# Altium schematic symbol library TD2_Project.SchLib: 39 symbols
Pins are listed as number, name and electrical type; pins without a type are passive.

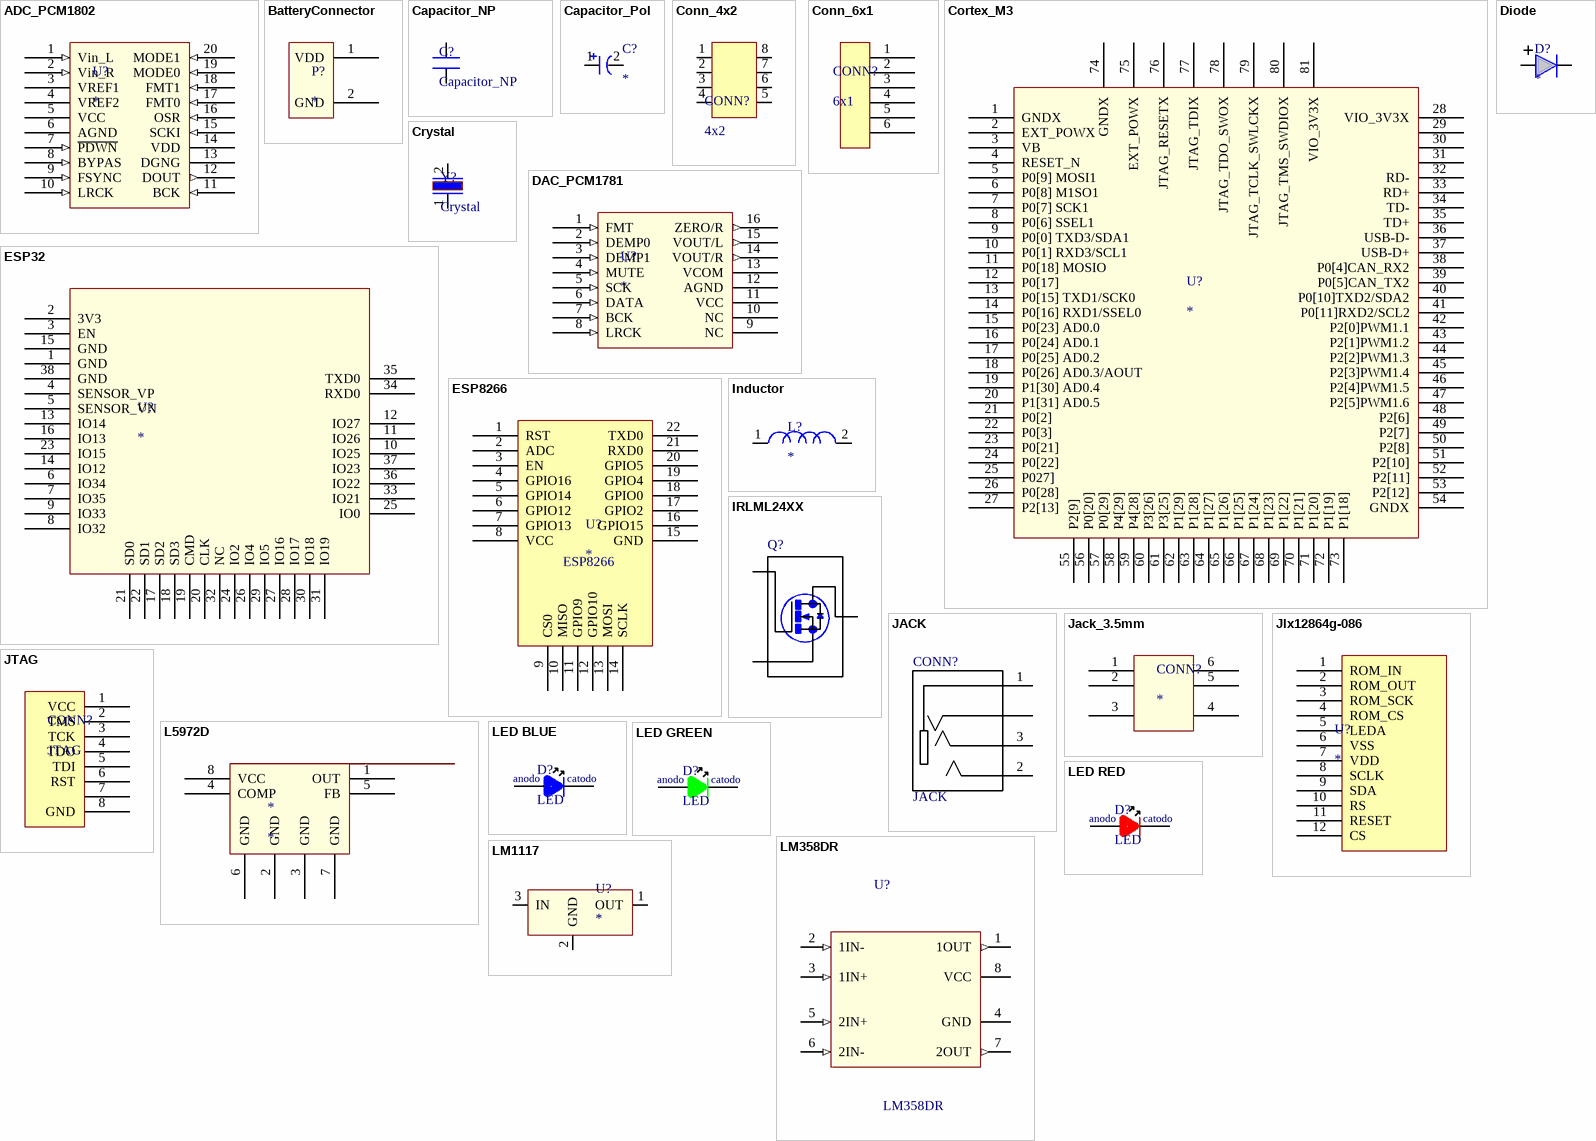
[diagram p0: symbols ADC_PCM1802 to LM1117]

## ADC_PCM1802
designator U?
The PCM1802 is a high-performance, low-cost, / single-chip stereo analog-to-digital converter with / single-ended analog voltage input. The PCM1802 / uses a delta-sigma modulator with 64-times or / 128‑times oversampling, and includes a digital / decimation filter and high-pass filter (HPF), which / removes the DC component of the input signal. For / various applications, the PCM1802 supports master / and slave modes and four data formats in serial / interface. The PCM1802 is suitable for a wide variety / of cost-sensitive consumer applications where good / performance, 5-V analog supply, and 3.3-V digital / supply operation is required. The PCM1802 is / fabricated using a highly advanced CMOS process / and is available in the DB 20-pin SSOP package.
footprint SSOP (20) (ADC_PCM1802)
pins: 1 Vin_L (in), 2 Vin_R (in), 3 VREF1, 4 VREF2, 5 VCC, 6 AGND, 7 ~{PDWN} (in), 8 BYPAS (in), 9 FSYNC (in), 10 LRCK (in), 11 BCK (in), 12 DOUT (out), 13 DGNG, 14 VDD, 15 SCKI (in), 16 OSR (in), 17 FMT0 (in), 18 FMT1 (in), 19 MODE0 (in), 20 MODE1 (in)

## BatteryConnector
designator P?
footprint BORNERA (S2B-PH-K-S)
pins: 1 VDD, 2 GND

## Capacitor_NP
designator C?
Non Polarised Capacitor
footprint C_0805 (Capacitor SMD)
pins: 1, 2

## Capacitor_Pol
designator C?
Polarysed Capacitor
footprint C_0805_Pol (CAPACITOR_POLARYSED)
pins: 1, 2

## Conn_4x2
designator CONN?, comment 4x2
pins: 1, 2, 3, 4, 5, 6, 7, 8

## Conn_6x1
designator CONN?, comment 6x1
pins: 1, 2, 3, 4, 5, 6

## Cortex_M3
designator U?
pins: 1 GNDX, 2 EXT_POWX, 3 VB, 4 RESET_N, 5 P0[9] MOSI1, 6 P0[8] M1SO1, 7 P0[7] SCK1, 8 P0[6] SSEL1, 9 P0[0] TXD3/SDA1, 10 P0[1] RXD3/SCL1, 11 P0[18] MOSIO, 12 P0[17], 13 P0[15] TXD1/SCK0, 14 P0[16] RXD1/SSEL0, 15 P0[23] AD0.0, 16 P0[24] AD0.1, 17 P0[25] AD0.2, 18 P0[26] AD0.3/AOUT, 19 P1[30] AD0.4, 20 P1[31] AD0.5, 21 P0[2], 22 P0[3], 23 P0[21], 24 P0[22], 25 P027], 26 P0[28], 27 P2[13], 28 VIO_3V3X, 29, 30, 31, 32 RD-, 33 RD+, 34 TD-, 35 TD+, 36 USB-D-, 37 USB-D+, 38 P0[4]CAN_RX2, 39 P0[5]CAN_TX2, 40 P0[10]TXD2/SDA2, 41 P0[11]RXD2/SCL2, 42 P2[0]PWM1.1, 43 P2[1]PWM1.2, 44 P2[2]PWM1.3, 45 P2[3]PWM1.4, 46 P2[4]PWM1.5, 47 P2[5]PWM1.6, 48 P2[6], 49 P2[7], 50 P2[8], 51 P2[10], 52 P2[11], 53 P2[12], 54 GNDX, 55 P2[9], 56 P0[20], 57 P0[29], 58 P4[29], 59 P4[28], 60 P3[26], 61 P3[25], 62 P1[29], 63 P1[28], 64 P1[27], 65 P1[26], 66 P1[25], 67 P1[24], 68 P1[23], 69 P1[22], 70 P1[21], 71 P1[20], 72 P1[19], 73 P1[18], 74 GNDX, 75 EXT_POWX, 76 JTAG_RESETX, 77 JTAG_TDIX, 78 JTAG_TDO_SWOX, 79 JTAG_TCLK_SWLCKX, 80 JTAG_TMS_SWDIOX, 81 VIO_3V3X

## Crystal
designator Y?
footprint ABM3C (CRYSTAL-12MHZ-D4Y)
pins: 1, 2

## DAC_PCM1781
designator U?
The PCM1780/81/82 is a CMOS, monolithic, integrated circuit, which includes stereo digital-to-analog converters and support circuitry in a small 16-lead SSOP package. The data converters use TI’s enhanced multilevel delta-sigma architecture to achieve excellent dynamic performance an improved tolerance to clock jitter. Sampling rates up to 200 kHz are supported.
footprint SSOP (20) (ADC_PCM1802)
pins: 1 FMT (in), 2 DEMP0 (in), 3 DEMP1 (in), 4 MUTE (in), 5 SCK (in), 6 DATA (in), 7 BCK (in), 8 LRCK (in), 9 NC, 10 NC, 11 VCC, 12 AGND, 13 VCOM, 14 VOUT/R (out), 15 VOUT/L (out), 16 ZERO/R (out)

## Diode
designator D?
footprint LED_0805
pins: 1 15, 2 16

## ESP32
designator U?
single 2.4 GHz Wi-Fi-and-Bluetooth combo chip
footprint ESP32
pins: 1 GND, 2 3V3, 3 EN, 4 SENSOR_VP, 5 SENSOR_VN, 6 IO34, 7 IO35, 8 IO32, 9 IO33, 10 IO25, 11 IO26, 12 IO27, 13 IO14, 14 IO12, 15 GND, 16 IO13, 17 SD2, 18 SD3, 19 CMD, 20 CLK, 21 SD0, 22 SD1, 23 IO15, 24 IO2, 25 IO0, 26 IO4, 27 IO16, 28 IO17, 29 IO5, 30 IO18, 31 IO19, 32 NC, 33 IO21, 34 RXD0, 35 TXD0, 36 IO22, 37 IO23, 38 GND

## ESP8266
designator U?
footprint ESP8266
pins: 1 RST, 2 ADC, 3 EN, 4 GPIO16, 5 GPIO14, 6 GPIO12, 7 GPIO13, 8 VCC, 9 CS0, 10 MISO, 11 GPIO9, 12 GPIO10, 13 MOSI, 14 SCLK, 15 GND, 16 GPIO15, 17 GPIO2, 18 GPIO0, 19 GPIO4, 20 GPIO5, 21 RXD0, 22 TXD0

## Inductor
designator L?
footprint MPI40-V2 (inductor)
pins: 1, 2

## IRLML24XX
designator Q?
MF: Infineon Technologies; MP: IRLML0040TRPBF; SnapEDA_Link: https://www.snapeda.com/parts/IRLML0040TRPBF/Infineon%20Technologies/view-part/?ref=snap; Price: None; Package: SOT-23 International Rectifier; Availability: Unavailable; Value: *
footprint *SOT95P237X112-3N
pins: 1 G, 2 S, 3 D

## JACK
designator CONN?
3.5 mm, Stereo, Right Angle, Surface Mount _SMT_, Audio Jack Connector; MF: CUI Inc.; MP: SJ2-35944A-SMT-TR; SnapEDA_Link: https://www.snapeda.com/parts/SJ2-35944A-SMT-TR/CUI%20Inc./view-part/?ref=snap; Package: None; CUI_purchase_URL: https://www.cui.com/product/interconnect/connectors/audio-connectors/jacks/sj2-3594x-smt-series?utm_source=snapeda.com&utm_medium=referral&utm_campaign=snapedaBOM; Availability: Unavailable; Price: None; Value: *
footprint JACK_3.5mm (*CUI_SJ2-35944A-SMT-TR_SJ2-35944A-SMT-TR(Primary))
pins: 1 SLEEVE, 2 TIP, 3 RING1, 4_1 RING2, 4_2 RING2

## Jack_3.5mm
designator CONN?
footprint JACK_3.5mm (*CUI_SJ2-35944A-SMT-TR_SJ2-35944A-SMT-TR(Primary))
pins: 1, 2, 3, 4, 5, 6

## Jlx12864g-086
designator U?
Display Lcd Gafico Spi 128x64 Jlx12864g-086
pins: 1 ROM_IN, 2 ROM_OUT, 3 ROM_SCK, 4 ROM_CS, 5 LEDA, 6 VSS, 7 VDD, 8 SCLK, 9 SDA, 10 RS, 11 RESET, 12 CS

## JTAG
designator CONN?
footprint JTAG
pins: 1 VCC, 2 TMS, 3 TCK, 4 TDO, 5 TDI, 6 RST, 7, 8 GND

## L5972D
designator *
2A switch step down switching regulator
pins: 1 OUT, 2 GND, 3 GND, 4 COMP, 5 FB, 6 GND, 7 GND, 8 VCC

## LED BLUE
designator D?, comment LED
footprint LED_0805
pins: 1 A, 2 K
text: anodo; catodo

## LED GREEN
designator D?, comment LED
footprint LED_0805
pins: 1 A, 2 K
text: anodo; catodo

## LED RED
designator D?, comment LED
footprint LED_0805
pins: 1 A, 2 K
text: anodo; catodo

## LM358DR
designator U?
Dual Operational Amplifiers 8-SOIC 0 to 70; MF: Texas Instruments; Package: SOIC-8 Texas Instruments; MP: LM358DR; Price: None; Availability: Unavailable; SnapEDA_Link: https://www.snapeda.com/parts/LM358DR/Texas%20Instruments/view-part/?ref=snap; Value: *
footprint LM358 (*SOIC127P600X175-8N)
pins: 1 1OUT (out), 2 1IN- (in), 3 1IN+ (in), 4 GND, 5 2IN+ (in), 6 2IN- (in), 7 2OUT (out), 8 VCC (power)

## LM1117
designator U?
low dropout positive voltage regulators that / are capable of providing an output current that is in excess of 1.0 A / with a maximum dropout voltage of 1.2 V at 800 mA over / temperature. This series contains nine fixed output voltages of 1.5 V, / 1.8 V, 1.9 V, 2.0 V, 2.5 V, 2.85 V, 3.3 V, 5.0 V, and 12 V that have no / minimum load requirement to maintain regulation
footprint SOT-223-3 (MCP1703 / LM1117)
pins: 1 OUT, 2 GND, 3 IN

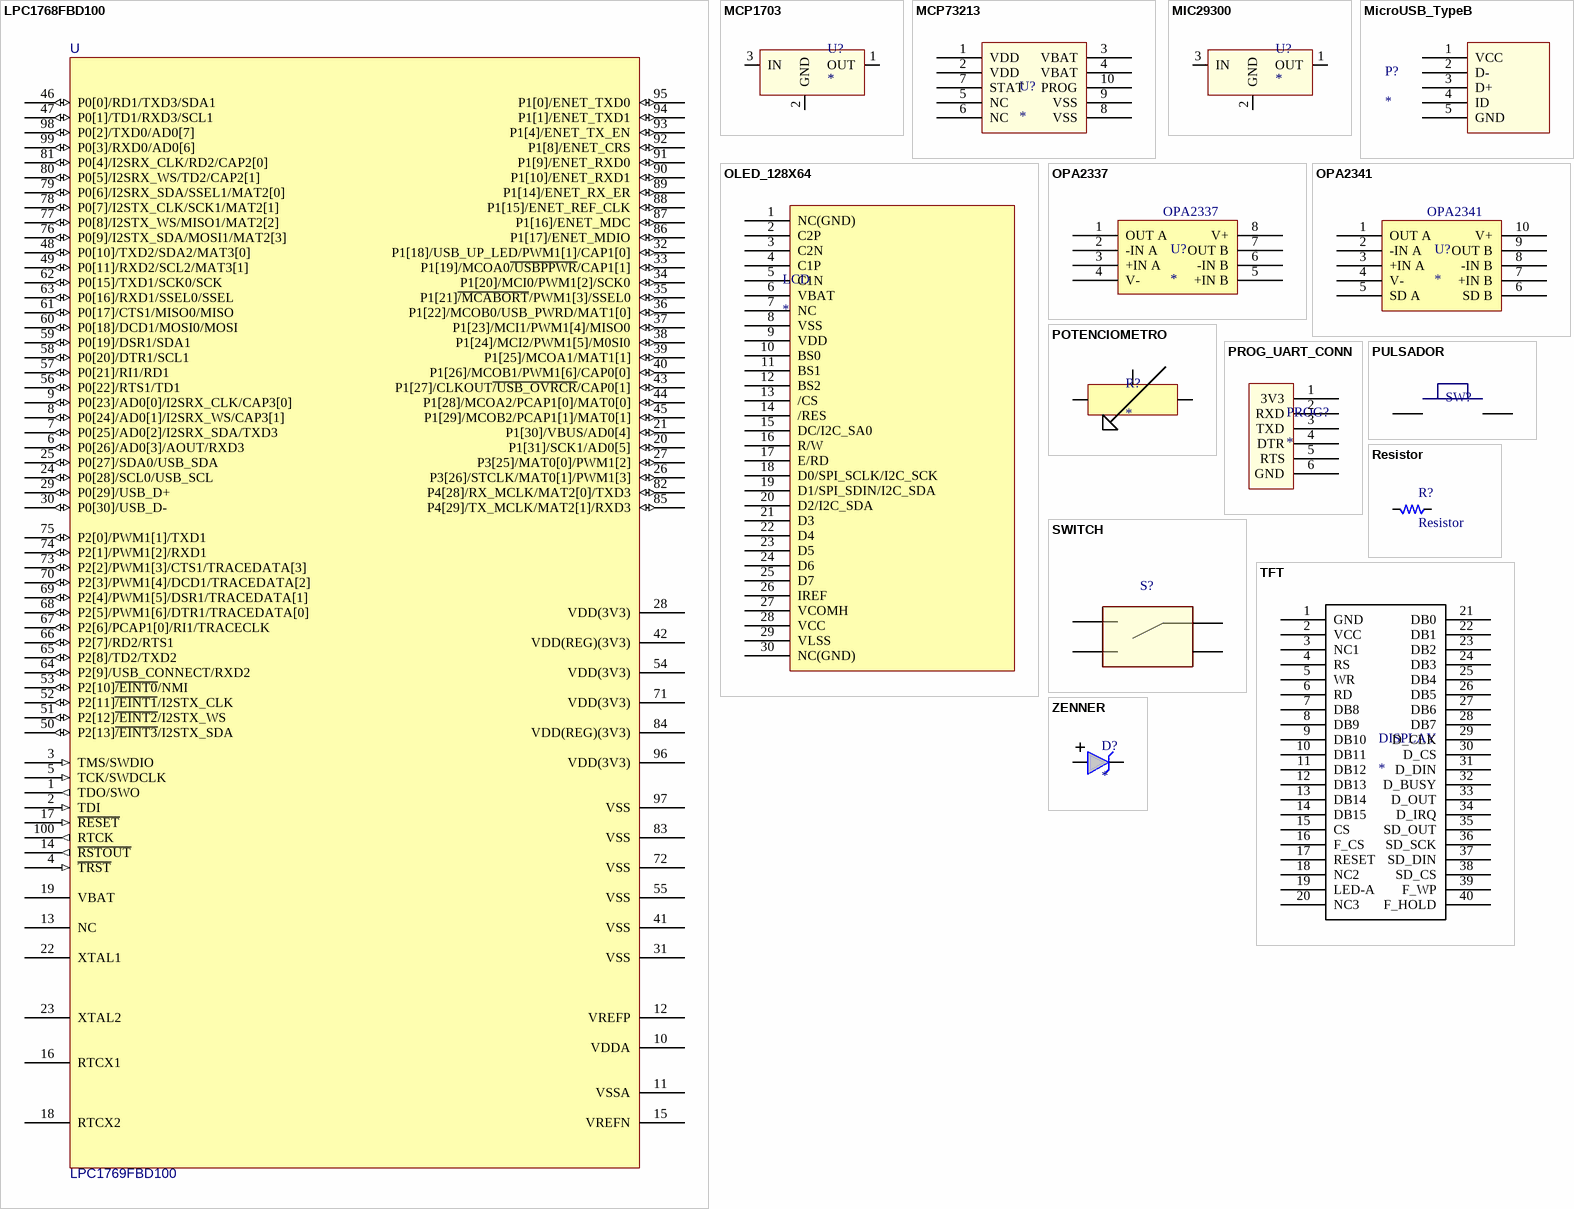
[diagram p1: symbols LPC1768FBD100 to ZENNER]

## LPC1768FBD100
designator U, comment LPC1769FBD100
CPU Cortex M3
pins: 1 TDO/SWO (out), 2 TDI (in), 3 TMS/SWDIO (in), 4 ~{TRST} (in), 5 TCK/SWDCLK (in), 6 P0[26]/AD0[3]/AOUT/RXD3 (io), 7 P0[25]/AD0[2]/I2SRX_SDA/TXD3 (io), 8 P0[24]/AD0[1]/I2SRX_WS/CAP3[1] (io), 9 P0[23]/AD0[0]/I2SRX_CLK/CAP3[0] (io), 10 VDDA (power), 11 VSSA (power), 12 VREFP (power), 13 NC, 14 ~{RSTOUT} (out), 15 VREFN (power), 16 RTCX1, 17 ~{RESET} (in), 18 RTCX2, 19 VBAT (power), 20 P1[31]/SCK1/AD0[5] (io), 21 P1[30]/VBUS/AD0[4] (io), 22 XTAL1, 23 XTAL2, 24 P0[28]/SCL0/USB_SCL (io), 25 P0[27]/SDA0/USB_SDA (io), 26 P3[26]/STCLK/MAT0[1]/PWM1[3] (io), 27 P3[25]/MAT0[0]/PWM1[2] (io), 28 VDD(3V3) (power), 29 P0[29]/USB_D+ (io), 30 P0[30]/USB_D- (io), 31 VSS (power), 32 P1[18]/USB_UP_LED/PWM1[1]/CAP1[0] (io), 33 P1[19]/MCOA0~{/USBPPWR}/CAP1[1] (io), 34 P1[20]/MCI0/PWM1[2]/SCK0 (io), 35 P1[21]~{/MCABORT}/PWM1[3]/SSEL0 (io), 36 P1[22]/MCOB0/USB_PWRD/MAT1[0] (io), 37 P1[23]/MCI1/PWM1[4]/MISO0 (io), 38 P1[24]/MCI2/PWM1[5]/M0SI0 (io), 39 P1[25]/MCOA1/MAT1[1] (io), 40 P1[26]/MCOB1/PWM1[6]/CAP0[0] (io), 41 VSS (power), 42 VDD(REG)(3V3) (power), 43 P1[27]/CLKOUT~{/USB_OVRCR}/CAP0[1] (io), 44 P1[28]/MCOA2/PCAP1[0]/MAT0[0] (io), 45 P1[29]/MCOB2/PCAP1[1]/MAT0[1] (io), 46 P0[0]/RD1/TXD3/SDA1 (io), 47 P0[1]/TD1/RXD3/SCL1 (io), 48 P0[10]/TXD2/SDA2/MAT3[0] (io), 49 P0[11]/RXD2/SCL2/MAT3[1] (io), 50 P2[13]~{/EINT3}/I2STX_SDA (io), 51 P2[12]~{/EINT2}/I2STX_WS (io), 52 P2[11]~{/EINT1}/I2STX_CLK (io), 53 P2[10]~{/EINT0}/NMI (io), 54 VDD(3V3) (power), 55 VSS (power), 56 P0[22]/RTS1/TD1 (io), 57 P0[21]/RI1/RD1 (io), 58 P0[20]/DTR1/SCL1 (io), 59 P0[19]/DSR1/SDA1 (io), 60 P0[18]/DCD1/MOSI0/MOSI (io), 61 P0[17]/CTS1/MISO0/MISO (io), 62 P0[15]/TXD1/SCK0/SCK (io), 63 P0[16]/RXD1/SSEL0/SSEL (io), 64 P2[9]/USB_CONNECT/RXD2 (io), 65 P2[8]/TD2/TXD2 (io), 66 P2[7]/RD2/RTS1 (io), 67 P2[6]/PCAP1[0]/RI1/TRACECLK (io), 68 P2[5]/PWM1[6]/DTR1/TRACEDATA[0] (io), 69 P2[4]/PWM1[5]/DSR1/TRACEDATA[1] (io), 70 P2[3]/PWM1[4]/DCD1/TRACEDATA[2] (io), 71 VDD(3V3) (power), 72 VSS (power), 73 P2[2]/PWM1[3]/CTS1/TRACEDATA[3] (io), 74 P2[1]/PWM1[2]/RXD1 (io), 75 P2[0]/PWM1[1]/TXD1 (io), 76 P0[9]/I2STX_SDA/MOSI1/MAT2[3] (io), 77 P0[8]/I2STX_WS/MISO1/MAT2[2] (io), 78 P0[7]/I2STX_CLK/SCK1/MAT2[1] (io), 79 P0[6]/I2SRX_SDA/SSEL1/MAT2[0] (io), 80 P0[5]/I2SRX_WS/TD2/CAP2[1] (io), 81 P0[4]/I2SRX_CLK/RD2/CAP2[0] (io), 82 P4[28]/RX_MCLK/MAT2[0]/TXD3 (io), 83 VSS (power), 84 VDD(REG)(3V3) (power), 85 P4[29]/TX_MCLK/MAT2[1]/RXD3 (io), 86 P1[17]/ENET_MDIO (io), 87 P1[16]/ENET_MDC (io), 88 P1[15]/ENET_REF_CLK (io), 89 P1[14]/ENET_RX_ER (io), 90 P1[10]/ENET_RXD1 (io), 91 P1[9]/ENET_RXD0 (io), 92 P1[8]/ENET_CRS (io), 93 P1[4]/ENET_TX_EN (io), 94 P1[1]/ENET_TXD1 (io), 95 P1[0]/ENET_TXD0 (io), 96 VDD(3V3) (power), 97 VSS (power), 98 P0[2]/TXD0/AD0[7] (io), 99 P0[3]/RXD0/AD0[6] (io), 100 RTCK (out)

## MCP1703
designator U?
low dropout positive voltage regulators that / are capable of providing an output current that is in excess of 1.0 A / with a maximum dropout voltage of 1.2 V at 800 mA over / temperature. This series contains nine fixed output voltages of 1.5 V, / 1.8 V, 1.9 V, 2.0 V, 2.5 V, 2.85 V, 3.3 V, 5.0 V, and 12 V that have no / minimum load requirement to maintain regulation
footprint SOT-223-3 (MCP1703 / LM1117)
pins: 1 OUT, 2 GND, 3 IN

## MCP73213
designator U?
Dual Cell Li-Ion Charge Management Controller
footprint MCP73213
pins: 1 VDD, 2 VDD, 3 VBAT, 4 VBAT, 5 NC, 6 NC, 7 STAT, 8 VSS, 9 VSS, 10 PROG

## MIC29300
designator U?
low dropout positive voltage regulators that / are capable of providing an output current that is in excess of 1.0 A / with a maximum dropout voltage of 1.2 V at 800 mA over / temperature. This series contains nine fixed output voltages of 1.5 V, / 1.8 V, 1.9 V, 2.0 V, 2.5 V, 2.85 V, 3.3 V, 5.0 V, and 12 V that have no / minimum load requirement to maintain regulation
footprint TO-263-3 (MIC29300)
pins: 1 OUT, 2 GND, 3 IN

## MicroUSB_TypeB
designator P?
footprint MICRO_USB (TE_2013499-1)
pins: 1 VCC, 2 D-, 3 D+, 4 ID, 5 GND

## OLED_128X64
designator LCD
footprint OLED 128x64
pins: 1 NC(GND), 2 C2P, 3 C2N, 4 C1P, 5 C1N, 6 VBAT, 7 NC, 8 VSS, 9 VDD, 10 BS0, 11 BS1, 12 BS2, 13 /CS, 14 /RES, 15 DC/I2C_SA0, 16 R/W, 17 E/RD, 18 D0/SPI_SCLK/I2C_SCK, 19 D1/SPI_SDIN/I2C_SDA, 20 D2/I2C_SDA, 21 D3, 22 D4, 23 D5, 24 D6, 25 D7, 26 IREF, 27 VCOMH, 28 VCC, 29 VLSS, 30 NC(GND)

## OPA2337
designator U?
footprint SOIC-8N (LM358)
footprint SOT23-8 (OPA2337)
pins: 1 OUT A, 2 -IN A, 3 +IN A, 4 V-, 5 +IN B, 6 -IN B, 7 OUT B, 8 V+

## OPA2341
designator U?
footprint SOP50P490X110-10N (OPA 2341)
pins: 1 OUT A, 2 -IN A, 3 +IN A, 4 V-, 5 SD A, 6 SD B, 7 +IN B, 8 -IN B, 9 OUT B, 10 V+

## POTENCIOMETRO
designator R?
footprint Potenciometro
pins: 1, 2, 3

## PROG_UART_CONN
designator PROG?
footprint PROG_UART_CONN
pins: 1 3V3, 2 RXD, 3 TXD, 4 DTR, 5 RTS, 6 GND

## PULSADOR
designator SW?  (value not drawn)
footprint Pulsador (TE_3-1825910-1)
footprint SW_SMD (SW_5-1437565-0)
footprint SW_SMD(2) (SW_1437566-3)
pins: 1, 2

## Resistor
designator R?
footprint R_0805 (Resistor SMD)
pins: 1, 2

## SWITCH
designator S?  (value not drawn)
Switch Push Button SPDT Round Plunger 6A 250VAC Momentary Contact Wire Lug Panel Mount Bulk; MF: TE Connectivity; MP: 5-1437567-0; SnapEDA_Link: https://www.snapeda.com/parts/5-1437567-0/TE%20Connectivity%20ALCOSWITCH%20Switches/view-part/?ref=snap; TE_purchase_URL: https://www.te.com/usa-en/product-5-1437567-0.html?te_bu=Cor&te_type=disp&te_campaign=seda_glo_cor-seda-global-disp-prtnr-fy19-seda-model-bom-cta_sma-317_1&elqCampaignId=32493; Package: None; Price: None; Availability: Unavailable; Value: *
footprint Header2x2
pins: 1, 2, 2, 3

## TFT
designator DISPLAY
footprint HEADER20X20
pins: 1 GND, 2 VCC, 3 NC1, 4 RS, 5 WR, 6 RD, 7 DB8, 8 DB9, 9 DB10, 10 DB11, 11 DB12, 12 DB13, 13 DB14, 14 DB15, 15 CS, 16 F_CS, 17 RESET, 18 NC2, 19 LED-A, 20 NC3, 21 DB0, 22 DB1, 23 DB2, 24 DB3, 25 DB4, 26 DB5, 27 DB6, 28 DB7, 29 D_CLK, 30 D_CS, 31 D_DIN, 32 D_BUSY, 33 D_OUT, 34 D_IRQ, 35 SD_OUT, 36 SD_SCK, 37 SD_DIN, 38 SD_CS, 39 F_WP, 40 F_HOLD

## ZENNER
designator D?
footprint SOD123
pins: 1 15, 2